# Altium integrated library HARTING DIN 41612 Type 2Q.IntLib: 21 symbols
Pins are listed as number, name and electrical type; pins without a type are passive.

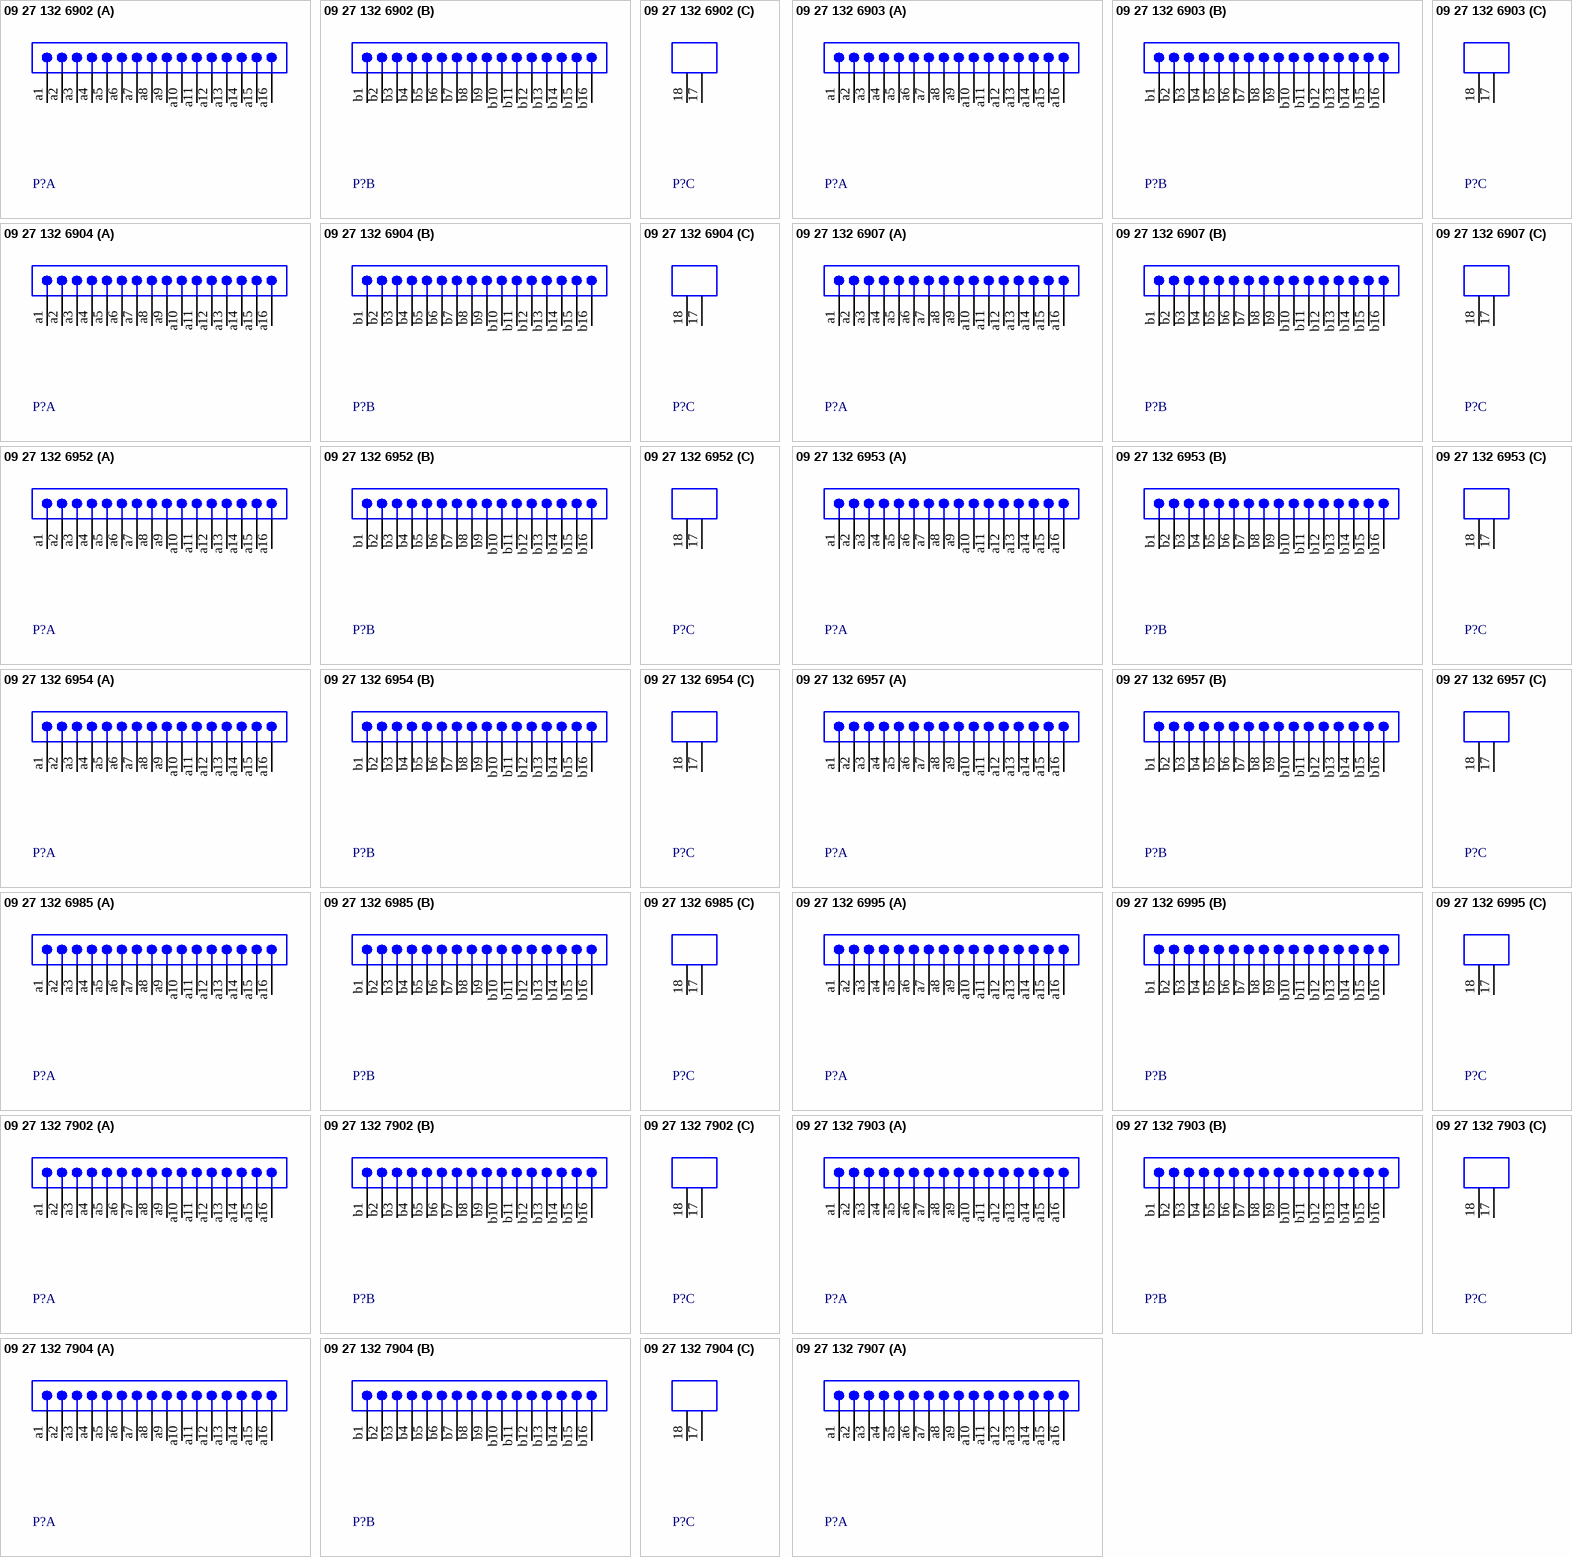
[diagram p0: symbols 09 27 132 6902 to 09 27 132 7907]

## 09 27 132 6902
designator P?
Eurocard DIN 41612, Type 2Q, Half Size, 32 Position, Rows a+b, Performance level 2, Male, Lead 2.5 mm, Pitch 2.54 mm; DrillSize: Corresponds to nominal value.; Published: 6-Oct-2005; DatasheetDocument: 02-Jun-2003; PackageDocument: 27-Jun-2001; PackageReference: 0927132x902; Publisher: Altium Limited; ComponentLink1Description: Manufacturer Link; ComponentLink1URL: http://www.harting.com/; ComponentLink2Description: Packaging Specification; ComponentLink2URL: http://www.harkis.harting.com/_gds/pdf/TB_0927132x902_BL01_R29867.pdf
footprint 0927132x902 (Connector; DIN 41612, Type 2Q, Thru-Hole; Rows a+b, 32 Position; Vertical)
signal-integrity model DIN 41612
part A pins: a1, a2, a3, a4, a5, a6, a7, a8, a9, a10, a11, a12, a13, a14, a15, a16
part B pins: b1, b2, b3, b4, b5, b6, b7, b8, b9, b10, b11, b12, b13, b14, b15, b16
part C pins: 17 MH1 "Mounting Fixture", 18 MH2 "Mounting Fixture"

## 09 27 132 6903
designator P?
Eurocard DIN 41612, Type 2Q, Half Size, 32 Position, Rows a+b, Performance level 2, Male, Lead 4.0 mm, Pitch 2.54 mm; DrillSize: Corresponds to nominal value.; Published: 6-Oct-2005; DatasheetDocument: 02-Jun-2003; PackageDocument: 26-Jun-2001; PackageReference: 0927132x903; Publisher: Altium Limited; ComponentLink1Description: Manufacturer Link; ComponentLink1URL: http://www.harting.com/; ComponentLink2Description: Packaging Specification; ComponentLink2URL: http://www.harkis.harting.com/_gds/pdf/TB_0927132x903_BL01_R29867.pdf
footprint 0927132x903 (Connector; DIN 41612, Type 2Q, Thru-Hole; Rows a+b, 32 Position; Vertical)
signal-integrity model DIN 41612
part A pins: a1, a2, a3, a4, a5, a6, a7, a8, a9, a10, a11, a12, a13, a14, a15, a16
part B pins: b1, b2, b3, b4, b5, b6, b7, b8, b9, b10, b11, b12, b13, b14, b15, b16
part C pins: 17 MH1 "Mounting Fixture", 18 MH2 "Mounting Fixture"

## 09 27 132 6904
designator P?
Eurocard DIN 41612, Type 2Q, Half Size, 32 Position, Rows a+b, Performance level 2, Male, Lead 5.0 mm, Pitch 2.54 mm; DrillSize: Corresponds to nominal value.; Published: 6-Oct-2005; DatasheetDocument: 03-Jun-2003; PackageDocument: 26-Sep-2001; PackageReference: 0927132x904; Publisher: Altium Limited; ComponentLink1Description: Manufacturer Link; ComponentLink1URL: http://www.harting.com/; ComponentLink2Description: Packaging Specification; ComponentLink2URL: http://www.harkis.harting.com/_gds/pdf/TB_0927132x904_BL01_R30002.pdf
footprint 0927132x904 (Connector; DIN 41612, Type 2Q, Thru-Hole; Rows a+b, 32 Position; Vertical)
signal-integrity model DIN 41612
part A pins: a1, a2, a3, a4, a5, a6, a7, a8, a9, a10, a11, a12, a13, a14, a15, a16
part B pins: b1, b2, b3, b4, b5, b6, b7, b8, b9, b10, b11, b12, b13, b14, b15, b16
part C pins: 17 MH1 "Mounting Fixture", 18 MH2 "Mounting Fixture"

## 09 27 132 6907
designator P?
Eurocard DIN 41612, Type 2Q, Half Size, 32 Position, Rows a+b, Performance level 2, Male, Lead 13.0 mm, Pitch 2.54 mm; DrillSize: Corresponds to nominal value.; Published: 6-Oct-2005; DatasheetDocument: 02-Jun-2003; PackageDocument: 28-Jun-2001; PackageReference: 0927132x907; Publisher: Altium Limited; ComponentLink1Description: Manufacturer Link; ComponentLink1URL: http://www.harting.com/; ComponentLink2Description: Packaging Specification; ComponentLink2URL: http://www.harkis.harting.com/_gds/pdf/TB_0927132x907_BL01_R29867.pdf
footprint 0927132x907 (Connector; DIN 41612, Type 2Q, Thru-Hole; Rows a+b, 32 Position; Vertical)
signal-integrity model DIN 41612
part A pins: a1, a2, a3, a4, a5, a6, a7, a8, a9, a10, a11, a12, a13, a14, a15, a16
part B pins: b1, b2, b3, b4, b5, b6, b7, b8, b9, b10, b11, b12, b13, b14, b15, b16
part C pins: 17 MH1 "Mounting Fixture", 18 MH2 "Mounting Fixture"

## 09 27 132 6952
designator P?
Eurocard DIN 41612, Type 2Q, Half Size, 30+2 Position, Rows a+b, Performance level 2, Male, Lead 2.5 mm, Pitch 2.54 mm; Note: Two leading contacts at positions a1 & a16.; DrillSize: Corresponds to nominal value.; Published: 6-Oct-2005; DatasheetDocument: 02-Jun-2003; PackageReference: 0927132x952; Publisher: Altium Limited; ComponentLink1Description: Manufacturer Link; ComponentLink1URL: http://www.harting.com/
footprint 0927132x952 (Connector; DIN 41612, Type 2Q, Thru-Hole; Rows a+b, 32 Position; Vertical)
signal-integrity model DIN 41612
part A pins: a1, a2, a3, a4, a5, a6, a7, a8, a9, a10, a11, a12, a13, a14, a15, a16
part B pins: b1, b2, b3, b4, b5, b6, b7, b8, b9, b10, b11, b12, b13, b14, b15, b16
part C pins: 17 MH1 "Mounting Fixture", 18 MH2 "Mounting Fixture"

## 09 27 132 6953
designator P?
Eurocard DIN 41612, Type 2Q, Half Size, 30+2 Position, Rows a+b, Performance level 2, Male, Lead 4.0 mm, Pitch 2.54 mm; Note: Two leading contacts at positions a1 & a16.; DrillSize: Corresponds to nominal value.; Published: 6-Oct-2005; DatasheetDocument: 02-Jun-2003; PackageReference: 0927132x953; Publisher: Altium Limited; ComponentLink1Description: Manufacturer Link; ComponentLink1URL: http://www.harting.com/
footprint 0927132x953 (Connector; DIN 41612, Type 2Q, Thru-Hole; Rows a+b, 32 Position; Vertical)
signal-integrity model DIN 41612
part A pins: a1, a2, a3, a4, a5, a6, a7, a8, a9, a10, a11, a12, a13, a14, a15, a16
part B pins: b1, b2, b3, b4, b5, b6, b7, b8, b9, b10, b11, b12, b13, b14, b15, b16
part C pins: 17 MH1 "Mounting Fixture", 18 MH2 "Mounting Fixture"

## 09 27 132 6954
designator P?
Eurocard DIN 41612, Type 2Q, Half Size, 30+2 Position, Rows a+b, Performance level 2, Male, Lead 5.0 mm, Pitch 2.54 mm; Note: Two leading contacts at positions a1 & a16.; DrillSize: Corresponds to nominal value.; Published: 6-Oct-2005; DatasheetDocument: 03-Jun-2003; PackageReference: 0927132x954; Publisher: Altium Limited; ComponentLink1Description: Manufacturer Link; ComponentLink1URL: http://www.harting.com/
footprint 0927132x954 (Connector; DIN 41612, Type 2Q, Thru-Hole; Rows a+b, 32 Position; Vertical)
signal-integrity model DIN 41612
part A pins: a1, a2, a3, a4, a5, a6, a7, a8, a9, a10, a11, a12, a13, a14, a15, a16
part B pins: b1, b2, b3, b4, b5, b6, b7, b8, b9, b10, b11, b12, b13, b14, b15, b16
part C pins: 17 MH1 "Mounting Fixture", 18 MH2 "Mounting Fixture"

## 09 27 132 6957
designator P?
Eurocard DIN 41612, Type 2Q, Half Size, 30+2 Position, Rows a+b, Performance level 2, Male, Lead 13.0 mm, Pitch 2.54 mm; Note: Two leading contacts at positions a1 & a16.; DrillSize: Corresponds to nominal value.; Published: 6-Oct-2005; DatasheetDocument: 02-Jun-2003; PackageReference: 0927132x957; Publisher: Altium Limited; ComponentLink1Description: Manufacturer Link; ComponentLink1URL: http://www.harting.com/
footprint 0927132x957 (Connector; DIN 41612, Type 2Q, Thru-Hole; Rows a+b, 32 Position; Vertical)
signal-integrity model DIN 41612
part A pins: a1, a2, a3, a4, a5, a6, a7, a8, a9, a10, a11, a12, a13, a14, a15, a16
part B pins: b1, b2, b3, b4, b5, b6, b7, b8, b9, b10, b11, b12, b13, b14, b15, b16
part C pins: 17 MH1 "Mounting Fixture", 18 MH2 "Mounting Fixture"

## 09 27 132 6985
designator P?
Eurocard DIN 41612, Type 2Q, Half Size, 32 Position, Rows a+b, Performance level 2, Male, Lead 13.0 mm, Pitch 2.54 mm; DrillSize: Corresponds to nominal value.; Published: 6-Oct-2005; DatasheetDocument: 03-Jun-2003; PackageReference: 0927132x985; Publisher: Altium Limited; ComponentLink1Description: Manufacturer Link; ComponentLink1URL: http://www.harting.com/
footprint 0927132x985 (Connector; DIN 41612, Type 2Q, Thru-Hole; Rows a+b, 32 Position; Vertical)
signal-integrity model DIN 41612
part A pins: a1, a2, a3, a4, a5, a6, a7, a8, a9, a10, a11, a12, a13, a14, a15, a16
part B pins: b1, b2, b3, b4, b5, b6, b7, b8, b9, b10, b11, b12, b13, b14, b15, b16
part C pins: 17 MH1 "Mounting Fixture", 18 MH2 "Mounting Fixture"

## 09 27 132 6995
designator P?
Eurocard DIN 41612, Type 2Q, Half Size, 30+2 Position, Rows a+b, Performance level 2, Male, Lead 13.0 mm, Pitch 2.54 mm; Note: Two leading contacts at positions a1 & a16.; DrillSize: Corresponds to nominal value.; Published: 6-Oct-2005; DatasheetDocument: 03-Jun-2003; PackageReference: 0927132x995; Publisher: Altium Limited; ComponentLink1Description: Manufacturer Link; ComponentLink1URL: http://www.harting.com/
footprint 0927132x995 (Connector; DIN 41612, Type 2Q, Thru-Hole; Rows a+b, 32 Position; Vertical)
signal-integrity model DIN 41612
part A pins: a1, a2, a3, a4, a5, a6, a7, a8, a9, a10, a11, a12, a13, a14, a15, a16
part B pins: b1, b2, b3, b4, b5, b6, b7, b8, b9, b10, b11, b12, b13, b14, b15, b16
part C pins: 17 MH1 "Mounting Fixture", 18 MH2 "Mounting Fixture"

## 09 27 132 7902
designator P?
Eurocard DIN 41612, Type 2Q, Half Size, 32 Position, Rows a+b, Performance level 3, Male, Lead 2.5 mm, Pitch 2.54 mm; DrillSize: Corresponds to nominal value.; Published: 6-Oct-2005; DatasheetDocument: 02-Jun-2003; PackageDocument: 27-Jun-2001; PackageReference: 0927132x902; Publisher: Altium Limited; ComponentLink1Description: Manufacturer Link; ComponentLink1URL: http://www.harting.com/; ComponentLink2Description: Packaging Specification; ComponentLink2URL: http://www.harkis.harting.com/_gds/pdf/TB_0927132x902_BL01_R29867.pdf
footprint 0927132x902 (Connector; DIN 41612, Type 2Q, Thru-Hole; Rows a+b, 32 Position; Vertical)
signal-integrity model DIN 41612
part A pins: a1, a2, a3, a4, a5, a6, a7, a8, a9, a10, a11, a12, a13, a14, a15, a16
part B pins: b1, b2, b3, b4, b5, b6, b7, b8, b9, b10, b11, b12, b13, b14, b15, b16
part C pins: 17 MH1 "Mounting Fixture", 18 MH2 "Mounting Fixture"

## 09 27 132 7903
designator P?
Eurocard DIN 41612, Type 2Q, Half Size, 32 Position, Rows a+b, Performance level 3, Male, Lead 4.0 mm, Pitch 2.54 mm; DrillSize: Corresponds to nominal value.; Published: 6-Oct-2005; DatasheetDocument: 02-Jun-2003; PackageDocument: 26-Jun-2001; PackageReference: 0927132x903; Publisher: Altium Limited; ComponentLink1Description: Manufacturer Link; ComponentLink1URL: http://www.harting.com/; ComponentLink2Description: Packaging Specification; ComponentLink2URL: http://www.harkis.harting.com/_gds/pdf/TB_0927132x903_BL01_R29867.pdf
footprint 0927132x903 (Connector; DIN 41612, Type 2Q, Thru-Hole; Rows a+b, 32 Position; Vertical)
signal-integrity model DIN 41612
part A pins: a1, a2, a3, a4, a5, a6, a7, a8, a9, a10, a11, a12, a13, a14, a15, a16
part B pins: b1, b2, b3, b4, b5, b6, b7, b8, b9, b10, b11, b12, b13, b14, b15, b16
part C pins: 17 MH1 "Mounting Fixture", 18 MH2 "Mounting Fixture"

## 09 27 132 7904
designator P?
Eurocard DIN 41612, Type 2Q, Half Size, 32 Position, Rows a+b, Performance level 3, Male, Lead 5.0 mm, Pitch 2.54 mm; DrillSize: Corresponds to nominal value.; Published: 6-Oct-2005; DatasheetDocument: 03-Jun-2003; PackageDocument: 26-Sep-2001; PackageReference: 0927132x904; Publisher: Altium Limited; ComponentLink1Description: Manufacturer Link; ComponentLink1URL: http://www.harting.com/; ComponentLink2Description: Packaging Specification; ComponentLink2URL: http://www.harkis.harting.com/_gds/pdf/TB_0927132x904_BL01_R30002.pdf
footprint 0927132x904 (Connector; DIN 41612, Type 2Q, Thru-Hole; Rows a+b, 32 Position; Vertical)
signal-integrity model DIN 41612
part A pins: a1, a2, a3, a4, a5, a6, a7, a8, a9, a10, a11, a12, a13, a14, a15, a16
part B pins: b1, b2, b3, b4, b5, b6, b7, b8, b9, b10, b11, b12, b13, b14, b15, b16
part C pins: 17 MH1 "Mounting Fixture", 18 MH2 "Mounting Fixture"

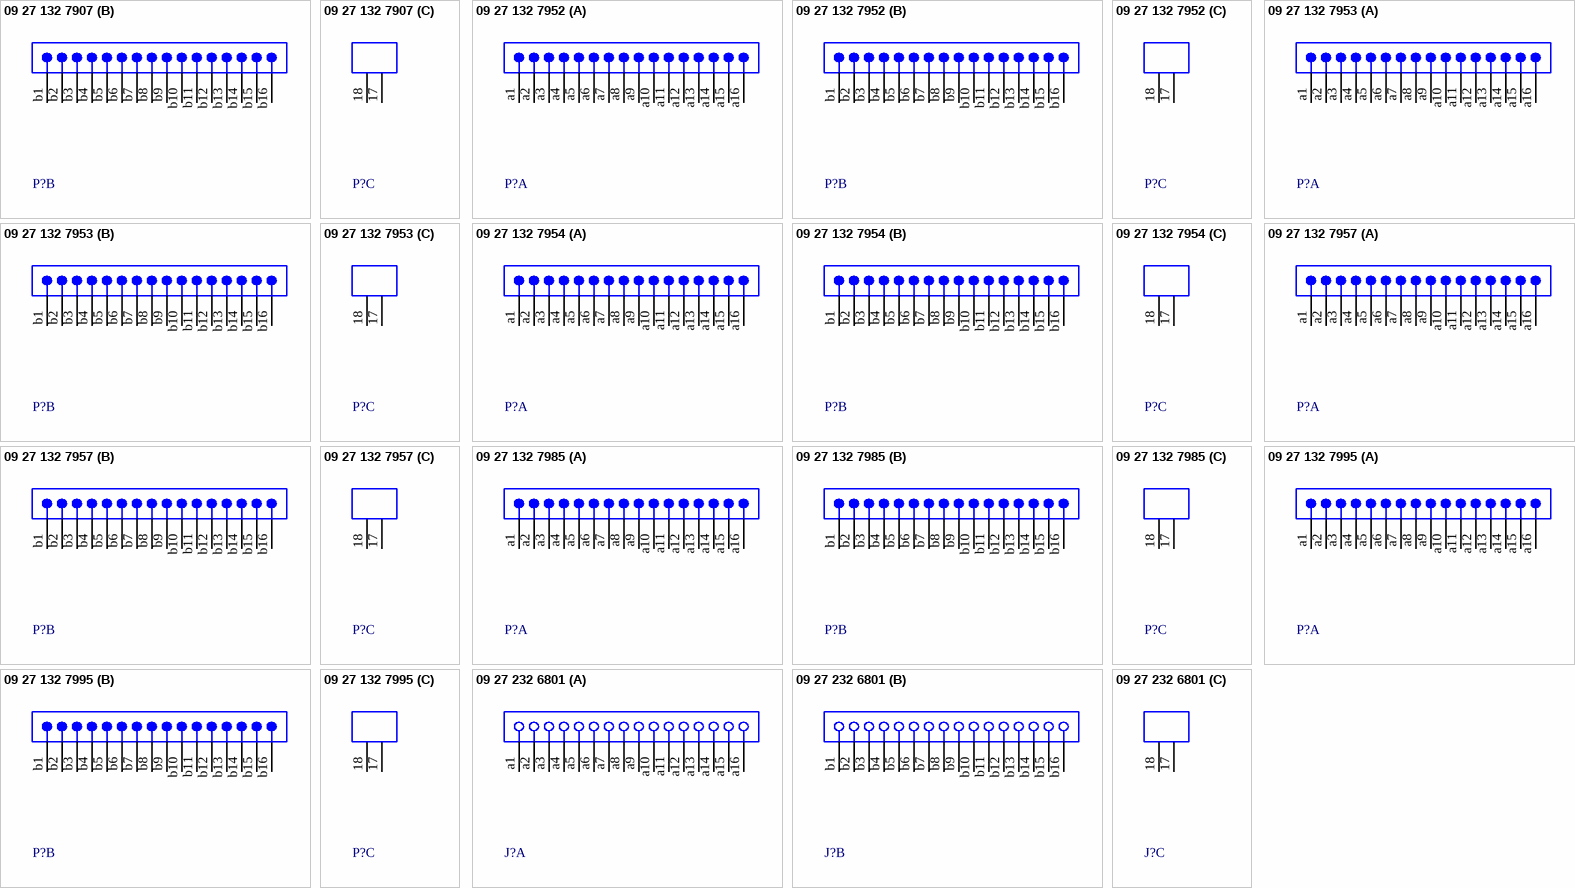
[diagram p1: symbols 09 27 132 7907 to 09 27 232 6801]

## 09 27 132 7907
designator P?
Eurocard DIN 41612, Type 2Q, Half Size, 32 Position, Rows a+b, Performance level 3, Male, Lead 13.0 mm, Pitch 2.54 mm; DrillSize: Corresponds to nominal value.; Published: 6-Oct-2005; DatasheetDocument: 02-Jun-2003; PackageDocument: 28-Jun-2001; PackageReference: 0927132x907; Publisher: Altium Limited; ComponentLink1Description: Manufacturer Link; ComponentLink1URL: http://www.harting.com/; ComponentLink2Description: Packaging Specification; ComponentLink2URL: http://www.harkis.harting.com/_gds/pdf/TB_0927132x907_BL01_R29867.pdf
footprint 0927132x907 (Connector; DIN 41612, Type 2Q, Thru-Hole; Rows a+b, 32 Position; Vertical)
signal-integrity model DIN 41612
part A pins: a1, a2, a3, a4, a5, a6, a7, a8, a9, a10, a11, a12, a13, a14, a15, a16
part B pins: b1, b2, b3, b4, b5, b6, b7, b8, b9, b10, b11, b12, b13, b14, b15, b16
part C pins: 17 MH1 "Mounting Fixture", 18 MH2 "Mounting Fixture"

## 09 27 132 7952
designator P?
Eurocard DIN 41612, Type 2Q, Half Size, 30+2 Position, Rows a+b, Performance level 3, Male, Lead 2.5 mm, Pitch 2.54 mm; Note: Two leading contacts at positions a1 & a16.; DrillSize: Corresponds to nominal value.; Published: 6-Oct-2005; DatasheetDocument: 02-Jun-2003; PackageReference: 0927132x952; Publisher: Altium Limited; ComponentLink1Description: Manufacturer Link; ComponentLink1URL: http://www.harting.com/
footprint 0927132x952 (Connector; DIN 41612, Type 2Q, Thru-Hole; Rows a+b, 32 Position; Vertical)
signal-integrity model DIN 41612
part A pins: a1, a2, a3, a4, a5, a6, a7, a8, a9, a10, a11, a12, a13, a14, a15, a16
part B pins: b1, b2, b3, b4, b5, b6, b7, b8, b9, b10, b11, b12, b13, b14, b15, b16
part C pins: 17 MH1 "Mounting Fixture", 18 MH2 "Mounting Fixture"

## 09 27 132 7953
designator P?
Eurocard DIN 41612, Type 2Q, Half Size, 30+2 Position, Rows a+b, Performance level 3, Male, Lead 4.0 mm, Pitch 2.54 mm; Note: Two leading contacts at positions a1 & a16.; DrillSize: Corresponds to nominal value.; Published: 6-Oct-2005; DatasheetDocument: 02-Jun-2003; PackageReference: 0927132x953; Publisher: Altium Limited; ComponentLink1Description: Manufacturer Link; ComponentLink1URL: http://www.harting.com/
footprint 0927132x953 (Connector; DIN 41612, Type 2Q, Thru-Hole; Rows a+b, 32 Position; Vertical)
signal-integrity model DIN 41612
part A pins: a1, a2, a3, a4, a5, a6, a7, a8, a9, a10, a11, a12, a13, a14, a15, a16
part B pins: b1, b2, b3, b4, b5, b6, b7, b8, b9, b10, b11, b12, b13, b14, b15, b16
part C pins: 17 MH1 "Mounting Fixture", 18 MH2 "Mounting Fixture"

## 09 27 132 7954
designator P?
Eurocard DIN 41612, Type 2Q, Half Size, 30+2 Position, Rows a+b, Performance level 3, Male, Lead 5.0 mm, Pitch 2.54 mm; Note: Two leading contacts at positions a1 & a16.; DrillSize: Corresponds to nominal value.; Published: 6-Oct-2005; DatasheetDocument: 03-Jun-2003; PackageReference: 0927132x954; Publisher: Altium Limited; ComponentLink1Description: Manufacturer Link; ComponentLink1URL: http://www.harting.com/
footprint 0927132x954 (Connector; DIN 41612, Type 2Q, Thru-Hole; Rows a+b, 32 Position; Vertical)
signal-integrity model DIN 41612
part A pins: a1, a2, a3, a4, a5, a6, a7, a8, a9, a10, a11, a12, a13, a14, a15, a16
part B pins: b1, b2, b3, b4, b5, b6, b7, b8, b9, b10, b11, b12, b13, b14, b15, b16
part C pins: 17 MH1 "Mounting Fixture", 18 MH2 "Mounting Fixture"

## 09 27 132 7957
designator P?
Eurocard DIN 41612, Type 2Q, Half Size, 30+2 Position, Rows a+b, Performance level 3, Male, Lead 13.0 mm, Pitch 2.54 mm; Note: Two leading contacts at positions a1 & a16.; DrillSize: Corresponds to nominal value.; Published: 6-Oct-2005; DatasheetDocument: 02-Jun-2003; PackageReference: 0927132x957; Publisher: Altium Limited; ComponentLink1Description: Manufacturer Link; ComponentLink1URL: http://www.harting.com/
footprint 0927132x957 (Connector; DIN 41612, Type 2Q, Thru-Hole; Rows a+b, 32 Position; Vertical)
signal-integrity model DIN 41612
part A pins: a1, a2, a3, a4, a5, a6, a7, a8, a9, a10, a11, a12, a13, a14, a15, a16
part B pins: b1, b2, b3, b4, b5, b6, b7, b8, b9, b10, b11, b12, b13, b14, b15, b16
part C pins: 17 MH1 "Mounting Fixture", 18 MH2 "Mounting Fixture"

## 09 27 132 7985
designator P?
Eurocard DIN 41612, Type 2Q, Half Size, 32 Position, Rows a+b, Performance level 3, Male, Lead 13.0 mm, Pitch 2.54 mm; DrillSize: Corresponds to nominal value.; Published: 6-Oct-2005; DatasheetDocument: 03-Jun-2003; PackageReference: 0927132x985; Publisher: Altium Limited; ComponentLink1Description: Manufacturer Link; ComponentLink1URL: http://www.harting.com/
footprint 0927132x985 (Connector; DIN 41612, Type 2Q, Thru-Hole; Rows a+b, 32 Position; Vertical)
signal-integrity model DIN 41612
part A pins: a1, a2, a3, a4, a5, a6, a7, a8, a9, a10, a11, a12, a13, a14, a15, a16
part B pins: b1, b2, b3, b4, b5, b6, b7, b8, b9, b10, b11, b12, b13, b14, b15, b16
part C pins: 17 MH1 "Mounting Fixture", 18 MH2 "Mounting Fixture"

## 09 27 132 7995
designator P?
Eurocard DIN 41612, Type 2Q, Half Size, 30+2 Position, Rows a+b, Performance level 3, Male, Lead 13.0 mm, Pitch 2.54 mm; Note: Two leading contacts at positions a1 & a16.; DrillSize: Corresponds to nominal value.; Published: 6-Oct-2005; DatasheetDocument: 03-Jun-2003; PackageReference: 0927132x995; Publisher: Altium Limited; ComponentLink1Description: Manufacturer Link; ComponentLink1URL: http://www.harting.com/
footprint 0927132x995 (Connector; DIN 41612, Type 2Q, Thru-Hole; Rows a+b, 32 Position; Vertical)
signal-integrity model DIN 41612
part A pins: a1, a2, a3, a4, a5, a6, a7, a8, a9, a10, a11, a12, a13, a14, a15, a16
part B pins: b1, b2, b3, b4, b5, b6, b7, b8, b9, b10, b11, b12, b13, b14, b15, b16
part C pins: 17 MH1 "Mounting Fixture", 18 MH2 "Mounting Fixture"

## 09 27 232 6801
designator J?
Eurocard DIN 41612, Type 2Q, Half Size, 32 Position, Rows a+b, Performance level 2, Female, Lead 3.0 mm, Pitch 2.54 mm; DrillSize: Corresponds to nominal value.; Published: 6-Oct-2005; DatasheetDocument: 02-Jun-2003; PackageDocument: 07-Jul-2000; PackageReference: 0927232x801; Publisher: Altium Limited; ComponentLink1Description: Manufacturer Link; ComponentLink1URL: http://www.harting.com/; ComponentLink2Description: Packaging Specification; ComponentLink2URL: http://www.harkis.harting.com/_gds/pdf/TB_0927232x801_BL01_R28036.pdf
footprint 0927232x801 (Connector; DIN 41612, Type Q, Thru-Hole; Rows a+b, 32 Position; Right Angle)
signal-integrity model DIN 41612
part A pins: a1, a2, a3, a4, a5, a6, a7, a8, a9, a10, a11, a12, a13, a14, a15, a16
part B pins: b1, b2, b3, b4, b5, b6, b7, b8, b9, b10, b11, b12, b13, b14, b15, b16
part C pins: 17 MH1 "Mounting Fixture", 18 MH2 "Mounting Fixture"